# EAGLE library part 6180XX211821_618015211821 (library Wurth_Connectors_WR-DSUB)
WR-DSUB 8.08 mm Female Angled PCB Connector w/o Hex Screw Kind Properties Quality Class:3 as per CECC 75 301-802 Gender:Female Type:Angled Insulator Material:PBT Insulator Flammability Rating:UL94 V-0 Color:Black Contact Material:Copper Alloy Contact Plating:Gold Contact Type:Stamped Shielding Material:Steel Shielding Plating:Nickel General Information Operating Temperature:-55 up to +105 °C Compliance:RoHS Electrical Properties IR1:3 A Working Voltage:125 V (AC) Withstanding Voltage:1000 V (AC) Contact Resistance:30 mΩ <https://www.we-online.com/components/media/o33076v209%20Family_WR-DSUB_6180xx211821.jpg> Details see: https://www.we-online.com/en/components/products/DSUB_FEMALE_ANGLED_PCB_CONNECTOR_W_O_HEX_SCREW_8_08MM_6180XX211821 Updated by Ella 2023-03-21 2023 (C) Würth Elektronik
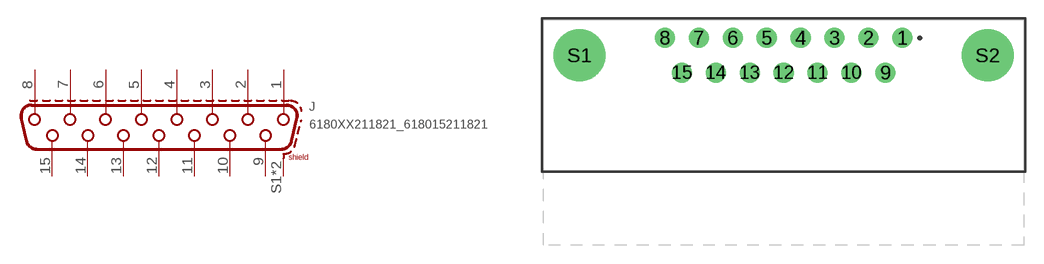
[diagram p5: symbol with the pads of 618015211821; footprint 618015211821]

Designator prefix J

## 6180XX211821_618015211821 (DATASHEET-URL: https://www.we-online.com/redexpert/spec/618015211821?ae; GENDER: Female; PART-NUMBER: 618015211821; PINS: 15; TYPE: Angled; VALUE: 618015211821; WE-NUMBER: 618015211821; WORKING-VOLTAGE: 125 V(AC))  [618015211821]
1  1
2  2
3  3
4  4
5  5
6  6
7  7
8  8
9  9
10  10
11  11
12  12
13  13
14  14
15  15
S1  SHIELD
S2  SHIELD

## Footprint 618015211821 (pad centres in mm)
WR-DSUB 8.08 mm Female Angled PCB Connector w/o Hex Screw,15 Pins
drill 1.09: 1 9.695,7.72; 2 6.925,7.72; 3 4.155,7.72; 4 1.385,7.72; 5 -1.385,7.72; 6 -4.155,7.72; 7 -6.925,7.72; 8 -9.695,7.72; 9 8.31,4.88; 10 5.54,4.88; 11 2.77,4.88; 12 0,4.88; 13 -2.77,4.88; 14 -5.54,4.88; 15 -8.31,4.88
drill 3.2: S1 -16.65,6.3; S2 16.65,6.3